# Altium footprint library SparkFun-Connectors.PCBLIB: 309 footprints (part 17 of 20)
Each footprint in its own frame and in the unit in brackets; x right, y up, seen from the top. Pads: shape width x height; smd on the part's side, far side on the other; paste and mask are expansions set on the pad; w line width, h text height; cw(c..) or ccw(c..) is an arc to the next point about the centre after c.
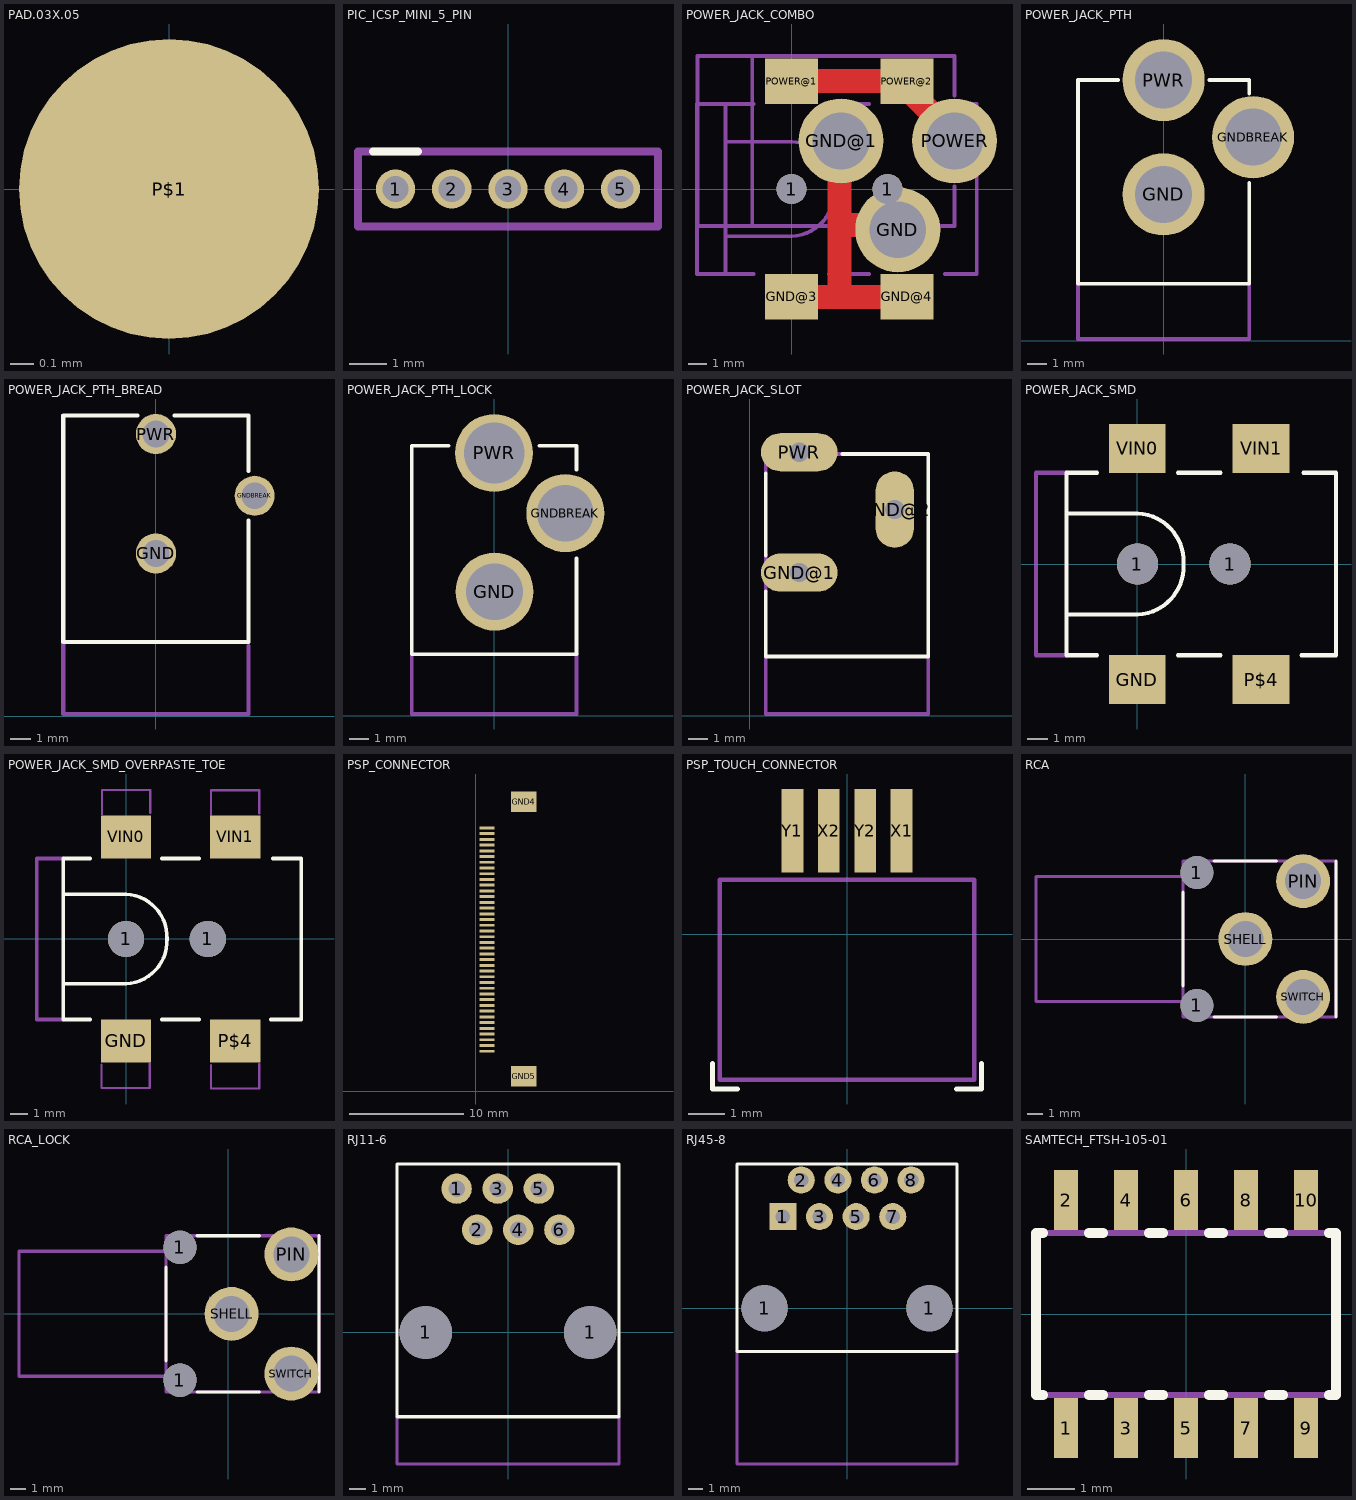
[diagram p16: the footprints below, top view; thin cyan lines are the x and y axes]

## PAD.03X.05 [mil]
pads (1):
  rrect100% 50x50 smd: P$1(0,0)

## PIC_ICSP_MINI_5_PIN [mm]
pads (5):
  round 1.05 hole 0.7: 1(-3,0) 2(-1.5,0) 3(0,0) 4(1.5,0) 5(3,0)
Top Overlay:
  lines w0.203: -3.6,1 -2.4,1
Bottom Overlay:
  lines w0.203: -3.594,1 -2.394,1
Mechanical 16:
  lines w0.203: -4,-1 -4,1 4,1 4,-1 -4,-1

## POWER_JACK_COMBO [mil]
pads (9):
  round 62.99 hole 62.99: 1(0,0) 1(200,0)
  round 177 hole 118: GND(221.26,-85.04) GND@1(103.15,100) POWER(339.37,100)
  rect 110.24x94.49 smd: GND@3(0,-224.41) GND@4(240.16,-224.41) POWER@1(0,224.41) POWER@2(240.16,224.41)
Top Layer:
  lines w50: 0,-225 100,-225 ; 0,225 250,225 250,200 350,100 ; 100,100 100,-75 ; 225,-75 100,-75 ; 250,-225 100,-225 ; 100,-225 100,-75
Mechanical 16:
  lines w8: -78.74,-177.17 -137.8,-177.17 ; -78.74,177.17 -137.8,177.17 ; 78.74,-177.17 161.42,-177.17 ; 78.74,177.17 161.42,177.17 ; 126.77,-77.17 -81.89,-77.17 ; 311.81,-77.17 339.37,-77.17 339.37,5.51 ; 318.9,-177.17 385.83,-177.17 385.83,177.17 322.83,177.17 ; 339.37,194.49 339.37,277.17 -81.89,277.17 ; -137.8,-177.17 -196.85,-177.17 -196.85,177.17 -137.8,177.17 ; -137.8,-177.17 -137.8,-98.43 ; -137.8,-98.43 -137.8,98.43 ; -137.8,-98.43 0,-98.43 ccw(c-4.21,-4.21) 90,0 ccw(c-4.21,4.21) 0,98.43 -137.8,98.43 ; -137.8,98.43 -137.8,177.17 ; -81.89,-77.17 -196.06,-77.17 -196.06,277.17 -81.89,277.17 ; -81.89,-77.17 -81.89,277.17

## POWER_JACK_PTH [mil]
pads (3):
  round 170 hole 118: GND(0,303.15) GNDBREAK(185.04,421.26) PWR(0,539.37)
Top Overlay:
  lines w8: -94.49,539.37 -177.17,539.37 -177.17,118.11 177.17,118.11 177.17,326.77 ; 94.49,539.37 177.17,539.37 177.17,511.81
Mechanical 16:
  lines w8: -177.17,118.11 -177.17,3.94 177.17,3.94 177.17,118.11

## POWER_JACK_PTH_BREAD [mm]
pads (3):
  round 1.95 hole 1.3: GND(0,7.9) GNDBREAK(4.8,10.7) PWR(0,13.7)
Top Overlay:
  lines w0.203: -0.9,14.6 -4.5,14.6 -4.5,3.6 4.5,3.6 4.5,9.5 ; 0.9,14.6 4.5,14.6 4.5,11.9
Mechanical 16:
  lines w0.203: -4.5,3.6 -4.5,0.1 4.5,0.1 4.5,3.4

## POWER_JACK_PTH_LOCK [mil]
pads (3):
  round 162 hole 118: GND(1,258.15) GNDBREAK(148.09,421.26)
  round 162 hole 125.98: PWR(0,546.37)
Top Overlay:
  lines w8: -94.49,561.37 -171.17,561.37 -171.17,128.11 171.17,128.11 171.17,326.77 ; 94.49,561.37 171.17,561.37 171.17,511.81
Mechanical 16:
  region: 58,528 58,546 -57,546 -57,528
  region: 48,291 48,302 -48,302 -48,291
  region: 187,469 176,469 176,373 187,373
  lines w8: -171.17,129.11 -171.17,3.94 171.17,3.94 171.17,129.11

## POWER_JACK_SLOT [mm]
pads (3):
  oval 4x2 hole 1: GND@1(2.58,7.5) PWR(2.58,13.8)
  oval 2x4 hole 1: GND@2(7.58,10.8)
Top Overlay:
  lines w0.203: 0.83,6.51 0.83,3.1 9.33,3.1 ; 0.83,8.4 0.83,12.7 ; 4.83,13.7 9.33,13.7 9.33,3.1 ; 9.28,3.1 9.33,3.1
Mechanical 11:
  lines w0: 0.98,13.8 4.18,13.8 ; 0.98,13.8 cw(c1.48,13.8) 1.48,14.3 3.68,14.3 cw(c3.68,13.8) 4.18,13.8 ; 0.98,13.8 ccw(c1.48,13.8) 1.48,13.3 3.68,13.3 ccw(c3.68,13.8) 4.18,13.8 ; 0.98,7.5 cw(c1.48,7.5) 1.48,8 3.68,8 cw(c3.68,7.5) 4.18,7.5 cw(c3.68,7.5) 3.68,7 1.48,7 cw(c1.48,7.5) 0.98,7.5 ; 7.08,9.7 ccw(c7.58,9.7) 7.58,9.2 ccw(c7.58,9.7) 8.08,9.7 8.08,11.9 ccw(c7.58,11.9) 7.58,12.4 ccw(c7.58,11.9) 7.08,11.9 7.08,9.7
Mechanical 16:
  lines w0.203: 0.83,3.1 0.83,0.1 9.33,0.1 9.33,3.1 ; 0.83,6.55 0.83,8.4 ; 0.83,12.7 0.83,13.7 4.83,13.7

## POWER_JACK_SMD [mil]
pads (6):
  round 80 hole 80: 1(0,0) 1(180,0)
  rect 110.24x94.49 smd: GND(0,-224.41) P$4(240.16,-224.41) VIN0(0,224.41) VIN1(240.16,224.41)
Top Overlay:
  lines w8: -78.74,-177.17 -137.8,-177.17 -137.8,-98.43 ; -78.74,177.17 -137.8,177.17 -137.8,98.43 ; 78.74,-177.17 161.42,-177.17 ; 78.74,177.17 161.42,177.17 ; 318.9,-177.17 385.83,-177.17 385.83,177.17 322.83,177.17 ; -137.8,-98.43 -137.8,98.43 ; -137.8,-98.43 0,-98.43 ccw(c-4.21,-4.21) 90,0 ccw(c-4.21,4.21) 0,98.43 -137.8,98.43
Mechanical 16:
  lines w8: -137.8,-177.17 -196.85,-177.17 -196.85,177.17 -137.8,177.17

## POWER_JACK_SMD_OVERPASTE_TOE [mil]
pads (6):
  round 80 hole 80: 1(0,0) 1(180,0)
  rect 110.24x94.49 smd: GND(0,-224.41) P$4(240.16,-224.41) VIN0(0,224.41) VIN1(240.16,224.41)
Top Overlay:
  lines w8: -78.74,-177.17 -137.8,-177.17 -137.8,-98.43 ; -78.74,177.17 -137.8,177.17 -137.8,98.43 ; 78.74,-177.17 161.42,-177.17 ; 78.74,177.17 161.42,177.17 ; 318.9,-177.17 385.83,-177.17 385.83,177.17 322.83,177.17 ; -137.8,-98.43 -137.8,98.43 ; -137.8,-98.43 0,-98.43 ccw(c-4.21,-4.21) 90,0 ccw(c-4.21,4.21) 0,98.43 -137.8,98.43
Top Paste:
  rectangle: -55.1,-330 55.1,-271.5
  rectangle: 185.1,-330.1 295.3,-271.6
  region: 295.3,330 185.1,330 185.1,271.5 295.3,271.5
  region: 55.1,330 -55.1,330 -55.1,271.5 55.1,271.5
Mechanical 16:
  lines w5: -54,-277 -54,-328 52,-328 52,-274 ; -53,274 -53,328 53,328 53,277 ; 187,-278 187,-329 293,-329 293,-275 ; 187,273 187,327 293,327 293,276
  lines w8: -137.8,-177.17 -196.85,-177.17 -196.85,177.17 -137.8,177.17
  text "OVERPASTE" at -48,310 h10.2
  text "OVERPASTE" at 192,309 h10.2
  text "OVERPASTE" at 47,-310 h10.2
  text "OVERPASTE" at 288,-311 h10.2
Mech84:
  drawing of 250 lines, arcs and shapes, not listed
  text "//kentro/work/Production/AOI Parts/Tyler/Breadboard power 5v/barreljack.bmp" at 390,-268 h1.7

## PSP_CONNECTOR [mm]
pads (43):
  rect 0.001x0.001 smd far side: .(4.4,25.3)
  rect 1.27x0.254 smd: AVDD(1,6) AVDD2(1,5.5) B0(1,13) B1(1,12.5) B2(1,12) B3(1,11.5) B4(1,11) B5(1,10.5) B6(1,10) B7(1,9.5) CK(1,8.5) DISP(1,8) G0(1,17) G1(1,16.5) G2(1,16) G3(1,15.5) G4(1,15) G5(1,14.5) G6(1,14) G7(1,13.5) GND(1,23) GND2(1,22.5) GND3(1,9) HSYNC(1,7.5) NC(1,6.5) NC2(1,5) R0(1,21) R1(1,20.5) R2(1,20) R3(1,19.5) R4(1,19) R5(1,18.5) R6(1,18) R7(1,17.5) TEST1(1,4.5) TEST2(1,4) TEST3(1,3.5) VCC(1,22) VCC2(1,21.5) VSYNC(1,7)
  rect 2.2x1.8 smd: GND4(4.2,25.3) GND5(4.2,1.3)

## PSP_TOUCH_CONNECTOR [mil]
pads (4):
  rect 23.62x90.55 smd: X1(59.06,112.2) X2(-19.69,112.2) Y1(-59.06,112.2) Y2(19.69,112.2)
Top Overlay:
  lines w5: -145.67,-139.76 -145.67,-167.32 -118.11,-167.32 ; 118.11,-167.32 145.67,-167.32 145.67,-139.76
Mechanical 16:
  lines w5: -137.8,-157.48 137.8,-157.48 137.8,59.06 -137.8,59.06 -137.8,-157.48

## RCA [mm]
pads (5):
  round 2.1 hole 2.1: 1(-3.1,-4.25) 1(-3.1,4.25)
  round 3.45 hole 2.3: PIN(3.7,3.7) SHELL(0,0) SWITCH(3.7,-3.7)
Top Overlay:
  lines w0.203: -4,-3 -4,3 ; -2,-5 2,-5 ; -2,5 2,5 ; 5.8,-5 5.8,5
Mechanical 16:
  lines w0.203: -4,-4 -13.4,-4 -13.4,4 -4,4 ; -4,-5 -4,5 5.8,5 5.8,-5 -4,-5

## RCA_LOCK [mil]
pads (5):
  round 84 hole 84: 1(-122.05,-167.32) 1(-122.05,167.32)
  round 135.82 hole 90.55: PIN(158.67,149.67) SHELL(8,0) SWITCH(158.67,-150.67)
Top Overlay:
  lines w8: -157.48,-118.11 -157.48,118.11 ; -78.74,-196.85 78.74,-196.85 ; -78.74,196.85 78.74,196.85 ; 228.35,-196.85 228.35,196.85
Mechanical 16:
  rectangle: -152,137 -93,196
  rectangle: -152,-198 -93,-139
  rectangle: -49,-44 10,44
  rectangle: 113,-153 201,-139
  rectangle: 113,137 201,151
  lines w1: 113,-138 176,-138 ; 113,136 176,136
  lines w8: -157.48,-157.48 -527.56,-157.48 -527.56,157.48 -157.48,157.48 ; -157.48,-196.85 -157.48,196.85 228.35,196.85 228.35,-196.85 -157.48,-196.85

## RJ11-6 [mil]
pads (8):
  round 128 hole 128: 1(-200,0) 1(200,0)
  round 74 hole 40: 1(-125,350) 2(-75,250) 3(-25,350) 4(25,250) 5(75,350) 6(125,250)
Top Overlay:
  lines w8: -270,-205 -270,410 270,410 270,-205 -270,-205
Mechanical 16:
  lines w8: -270,-205 -270,-320 270,-320 270,-205

## RJ45-8 [mil]
pads (10):
  round 125.98 hole 125.98: 1(-225,0) 1(225,0)
  rect 74x74 hole 39.37: 1(-175,250)
  round 74 hole 39.37: 2(-125,350) 3(-75,250) 4(-25,350) 5(25,250) 6(75,350) 7(125,250) 8(175,350)
Top Overlay:
  lines w8: -300,-118.11 -300,393.7 300,393.7 300,-118.11 -300,-118.11
Mechanical 16:
  lines w8: -300,-118.11 -300,-425.2 300,-425.2 300,-118.11

## SAMTECH_FTSH-105-01 [mil]
pads (10):
  rect 20x50 smd: 1(-100,-95) 2(-100,95) 3(-50,-95) 4(-50,95) 5(0,-95) 6(0,95) 7(50,-95) 8(50,95) 9(100,-95) 10(100,95)
Top Overlay:
  lines w8: -119,-67.5 -125,-67.5 -125,67.5 -119,67.5 ; -81,-67.5 -69,-67.5 ; -81,67.5 -69,67.5 ; -31,-67.5 -19,-67.5 ; -31,67.5 -19,67.5 ; 19,-67.5 31,-67.5 ; 19,67.5 31,67.5 ; 69,-67.5 81,-67.5 ; 69,67.5 81,67.5 ; 119,-67.5 125,-67.5 125,67.5 119,67.5
Mechanical 16:
  rectangle: -8,67.5 8,115
  rectangle: 42,67.5 58,115
  rectangle: 92,67.5 108,115
  rectangle: -58,67.5 -42,115
  rectangle: -108,67.5 -92,115
  region: 8,-67.5 -8,-67.5 -8,-115 8,-115
  region: -42,-67.5 -58,-67.5 -58,-115 -42,-115
  region: -92,-67.5 -108,-67.5 -108,-115 -92,-115
  region: 58,-67.5 42,-67.5 42,-115 58,-115
  region: 108,-67.5 92,-67.5 92,-115 108,-115
  lines w5: -125,-67.5 125,-67.5 125,67.5 -125,67.5 -125,-67.5